# Altium integrated library bridge_rectifiers.IntLib: 16 symbols
Pins are listed as number, name and electrical type; pins without a type are passive.

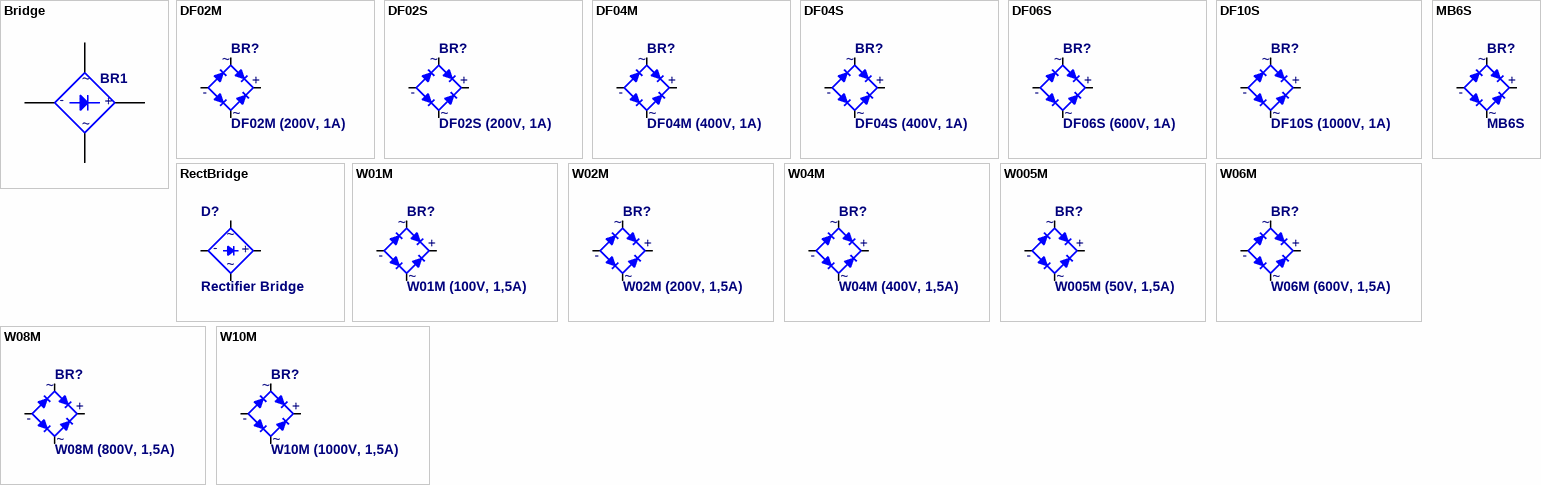
[diagram p0: symbols Bridge to W10M]

## Bridge
designator BR1  (value not drawn)
Full Wave Diode Bridge; Published: 20-Feb-2006
footprint Mostek 6A
footprint Mostek 25A (KBK25J)
footprint DB1 (1A bridge)
pins: 1 +, 2 AC, 3 AC, 4 -
1 alternate drawing of the same symbol
text: ~

## DF02M
designator BR?, comment DF02M (200V, 1A)
200V, 1A, Single Phase Silicone Bridge Rectifier, Vishay; Published: 8-Jun-2000; LatestRevisionDate: 29-May-2009; LatestRevisionNote: Sch pins A & K swapped.; DatasheetVersion: E2732B; PackageReference: D-38; Publisher: Altium Limited; PackageDescription: Bridge Rectifier; 4 Terminals; Body 9.4 x 9.4 mm (typ); Pitch 5.08 mm
footprint DFxxM (1A, THT, Vishat Rectifier Bridge)
pins: 1 + (power), 2 AC (power), 3 AC (power), 4 - (power)
2 alternate drawings of the same symbol
text: ~

## DF02S
designator BR?, comment DF02S (200V, 1A)
200V, 1A, Single Phase Surface Mount Silicone Bridge Rectifier, Vishay; Published: 8-Jun-2000; LatestRevisionDate: 29-May-2009; LatestRevisionNote: Sch pins A & K swapped.; DatasheetVersion: E2732B; PackageReference: D-38; Publisher: Altium Limited; PackageDescription: Bridge Rectifier; 4 Terminals; Body 9.4 x 9.4 mm (typ); Pitch 5.08 mm
footprint DFxxS (DB-1S) (1A, Single-Phase Surface Mount Bridge Recrifier)
pins: 1 + (power), 2 AC (power), 3 AC (power), 4 - (power)
2 alternate drawings of the same symbol
text: ~

## DF04M
designator BR?, comment DF04M (400V, 1A)
400V, 1A, Single Phase Silicone Bridge Rectifier, Vishay; Published: 8-Jun-2000; LatestRevisionDate: 29-May-2009; LatestRevisionNote: Sch pins A & K swapped.; DatasheetVersion: E2732B; PackageReference: D-38; Publisher: Altium Limited; PackageDescription: Bridge Rectifier; 4 Terminals; Body 9.4 x 9.4 mm (typ); Pitch 5.08 mm
footprint DFxxM (1A, THT, Vishat Rectifier Bridge)
pins: 1 + (power), 2 AC (power), 3 AC (power), 4 - (power)
2 alternate drawings of the same symbol
text: ~

## DF04S
designator BR?, comment DF04S (400V, 1A)
400V, 1A, Single Phase Surface Mount Silicone Bridge Rectifier, Vishay; Published: 8-Jun-2000; LatestRevisionDate: 29-May-2009; LatestRevisionNote: Sch pins A & K swapped.; DatasheetVersion: E2732B; PackageReference: D-38; Publisher: Altium Limited; PackageDescription: Bridge Rectifier; 4 Terminals; Body 9.4 x 9.4 mm (typ); Pitch 5.08 mm
footprint DFxxS (DB-1S) (1A, Single-Phase Surface Mount Bridge Recrifier)
pins: 1 + (power), 2 AC (power), 3 AC (power), 4 - (power)
2 alternate drawings of the same symbol
text: ~

## DF06S
designator BR?, comment DF06S (600V, 1A)
600V, 1A, Single Phase Surface Mount Silicone Bridge Rectifier, Vishay; Published: 8-Jun-2000; LatestRevisionDate: 29-May-2009; LatestRevisionNote: Sch pins A & K swapped.; DatasheetVersion: E2732B; PackageReference: D-38; Publisher: Altium Limited; PackageDescription: Bridge Rectifier; 4 Terminals; Body 9.4 x 9.4 mm (typ); Pitch 5.08 mm
footprint DFxxS (DB-1S) (1A, Single-Phase Surface Mount Bridge Recrifier)
pins: 1 + (power), 2 AC (power), 3 AC (power), 4 - (power)
2 alternate drawings of the same symbol
text: ~

## DF10S
designator BR?, comment DF10S (1000V, 1A)
1000V, 1A, Single Phase Surface Mount Silicone Bridge Rectifier, Vishay; Published: 8-Jun-2000; LatestRevisionDate: 29-May-2009; LatestRevisionNote: Sch pins A & K swapped.; DatasheetVersion: E2732B; PackageReference: D-38; Publisher: Altium Limited; PackageDescription: Bridge Rectifier; 4 Terminals; Body 9.4 x 9.4 mm (typ); Pitch 5.08 mm
footprint DFxxS (DB-1S) (1A, Single-Phase Surface Mount Bridge Recrifier)
pins: 1 + (power), 2 AC (power), 3 AC (power), 4 - (power)
2 alternate drawings of the same symbol
text: ~

## MB6S
designator BR?
600V, 0.5A, Single Phase Surface Mount Silicone Bridge Rectifier; Published: 8-Jun-2000; LatestRevisionDate: 29-May-2009; LatestRevisionNote: Sch pins A & K swapped.; DatasheetVersion: E2732B; PackageReference: D-38; Publisher: Altium Limited; PackageDescription: Bridge Rectifier; 4 Terminals; Body 9.4 x 9.4 mm (typ); Pitch 5.08 mm
footprint MB-S
pins: 1 + (power), 2 AC (power), 3 AC (power), 4 - (power)
2 alternate drawings of the same symbol
text: ~

## RectBridge
designator D?, comment Rectifier Bridge
Full Wave Diode Bridge; Published: 20-Feb-2006
footprint Mostek 6A
footprint Mostek 25A (KBK25J)
footprint WxxM (W005M - W10M, (50-1000V, 1,5A) Bridge Rectifiers, DC Components)
pins: 1 + (power), 2 AC (power), 3 AC (power), 4 - (power)
1 alternate drawing of the same symbol
text: ~

## W01M
designator BR?, comment W01M (100V, 1,5A)
100V, 1,5A, Single Phase Silicone Bridge Rectifier, DC Components; Published: 8-Jun-2000; LatestRevisionDate: 29-May-2009; LatestRevisionNote: Sch pins A & K swapped.; DatasheetVersion: E2732B; PackageReference: D-38; Publisher: Altium Limited; PackageDescription: Bridge Rectifier; 4 Terminals; Body 9.4 x 9.4 mm (typ); Pitch 5.08 mm
footprint WxxM (AM) (W005M - W10M, AM100, AM150, (50-1000V, 1,5A) Bridge Rectifiers, DC Components, COMCHIP)
pins: 1 + (power), 2 AC (power), 3 AC (power), 4 - (power)
2 alternate drawings of the same symbol
text: ~

## W02M
designator BR?, comment W02M (200V, 1,5A)
200V, 1,5A, Single Phase Silicone Bridge Rectifier, DC Components; Published: 8-Jun-2000; LatestRevisionDate: 29-May-2009; LatestRevisionNote: Sch pins A & K swapped.; DatasheetVersion: E2732B; PackageReference: D-38; Publisher: Altium Limited; PackageDescription: Bridge Rectifier; 4 Terminals; Body 9.4 x 9.4 mm (typ); Pitch 5.08 mm
footprint WxxM (AM) (W005M - W10M, AM100, AM150, (50-1000V, 1,5A) Bridge Rectifiers, DC Components, COMCHIP)
pins: 1 + (power), 2 AC (power), 3 AC (power), 4 - (power)
2 alternate drawings of the same symbol
text: ~

## W04M
designator BR?, comment W04M (400V, 1,5A)
400V, 1,5A, Single Phase Silicone Bridge Rectifier, DC Components; Published: 8-Jun-2000; LatestRevisionDate: 29-May-2009; LatestRevisionNote: Sch pins A & K swapped.; DatasheetVersion: E2732B; PackageReference: D-38; Publisher: Altium Limited; PackageDescription: Bridge Rectifier; 4 Terminals; Body 9.4 x 9.4 mm (typ); Pitch 5.08 mm
footprint WxxM (AM) (W005M - W10M, AM100, AM150, (50-1000V, 1,5A) Bridge Rectifiers, DC Components, COMCHIP)
pins: 1 + (power), 2 AC (power), 3 AC (power), 4 - (power)
2 alternate drawings of the same symbol
text: ~

## W005M
designator BR?, comment W005M (50V, 1,5A)
50V, 1,5A, Single Phase Silicone Bridge Rectifier, DC Components; Published: 8-Jun-2000; LatestRevisionDate: 29-May-2009; LatestRevisionNote: Sch pins A & K swapped.; DatasheetVersion: E2732B; PackageReference: D-38; Publisher: Altium Limited; PackageDescription: Bridge Rectifier; 4 Terminals; Body 9.4 x 9.4 mm (typ); Pitch 5.08 mm
footprint WxxM (AM) (W005M - W10M, AM100, AM150, (50-1000V, 1,5A) Bridge Rectifiers, DC Components, COMCHIP)
pins: 1 + (power), 2 AC (power), 3 AC (power), 4 - (power)
2 alternate drawings of the same symbol
text: ~

## W06M
designator BR?, comment W06M (600V, 1,5A)
600V, 1,5A, Single Phase Silicone Bridge Rectifier, DC Components; Published: 8-Jun-2000; LatestRevisionDate: 29-May-2009; LatestRevisionNote: Sch pins A & K swapped.; DatasheetVersion: E2732B; PackageReference: D-38; Publisher: Altium Limited; PackageDescription: Bridge Rectifier; 4 Terminals; Body 9.4 x 9.4 mm (typ); Pitch 5.08 mm
footprint WxxM (AM) (W005M - W10M, AM100, AM150, (50-1000V, 1,5A) Bridge Rectifiers, DC Components, COMCHIP)
pins: 1 + (power), 2 AC (power), 3 AC (power), 4 - (power)
2 alternate drawings of the same symbol
text: ~

## W08M
designator BR?, comment W08M (800V, 1,5A)
800V, 1,5A, Single Phase Silicone Bridge Rectifier, DC Components; Published: 8-Jun-2000; LatestRevisionDate: 29-May-2009; LatestRevisionNote: Sch pins A & K swapped.; DatasheetVersion: E2732B; PackageReference: D-38; Publisher: Altium Limited; PackageDescription: Bridge Rectifier; 4 Terminals; Body 9.4 x 9.4 mm (typ); Pitch 5.08 mm
footprint WxxM (AM) (W005M - W10M, AM100, AM150, (50-1000V, 1,5A) Bridge Rectifiers, DC Components, COMCHIP)
pins: 1 + (power), 2 AC (power), 3 AC (power), 4 - (power)
2 alternate drawings of the same symbol
text: ~

## W10M
designator BR?, comment W10M (1000V, 1,5A)
1000V, 1,5A, Single Phase Silicone Bridge Rectifier, DC Components; Published: 8-Jun-2000; LatestRevisionDate: 29-May-2009; LatestRevisionNote: Sch pins A & K swapped.; DatasheetVersion: E2732B; PackageReference: D-38; Publisher: Altium Limited; PackageDescription: Bridge Rectifier; 4 Terminals; Body 9.4 x 9.4 mm (typ); Pitch 5.08 mm
footprint WxxM (AM) (W005M - W10M, AM100, AM150, (50-1000V, 1,5A) Bridge Rectifiers, DC Components, COMCHIP)
pins: 1 + (power), 2 AC (power), 3 AC (power), 4 - (power)
2 alternate drawings of the same symbol
text: ~